# Altium integrated library T543L107M010AHE025.IntLib: 1 symbol
Pins are listed as number, name and electrical type; pins without a type are passive.

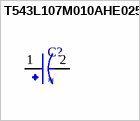
[diagram p0: symbol T543L107M010AHE025]

## T543L107M010AHE025
designator C?
Tantalum Capacitors - Polymer T543_COTS, Tantalum, Polymer Tantalum, COTS, 100 uF, 20%, 10 VDC, SMD, Polymer, Molded, COTS, Low Profile, Up Screen, N/A, 25 mOhms, 6032, Height Max = 1.9mm; MF: KEMET; MP: T543L107M010AHE025; Availability: Not in stock; SnapEDA_Link: https://www.snapeda.com/parts/T543L107M010AHE025/KEMET/view-part/?ref=snap; Price: None; Package: SMD-2 Kemet; Check_prices: https://www.snapeda.com/parts/T543L107M010AHE025/KEMET/view-part/?ref=eda; Value: *
footprint CAPMP6032X190N
pins: 1, 2